# Altium schematic symbol library 电源管理.SchLib: 1 symbol
Pins are listed as number, name and electrical type; pins without a type are passive.

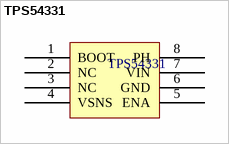
[diagram p0: symbol TPS54331]

## TPS54331
designator TPS54331
降压
pins: 1 BOOT, 2 NC, 3 NC, 4 VSNS, 5 ENA, 6 GND, 7 VIN, 8 PH